# Altium footprint library QUTMS_IsolatedPowerSupply.PcbLib: 1 footprints
Each footprint in its own frame and in the unit in brackets; x right, y up, seen from the top. Pads: shape width x height; smd on the part's side, far side on the other; paste and mask are expansions set on the pad; w line width, h text height; cw(c..) or ccw(c..) is an arc to the next point about the centre after c.
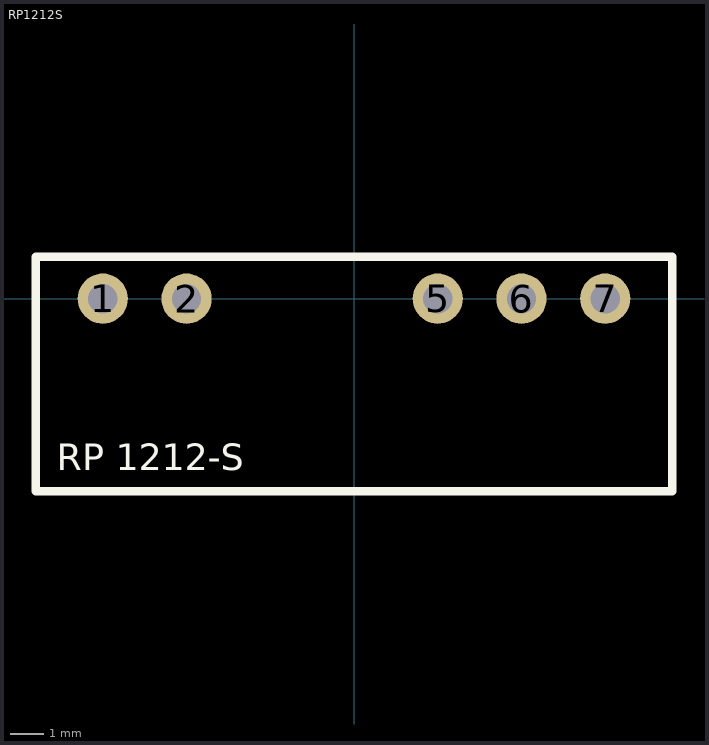
[diagram p0: the footprint, top view; thin cyan lines are the x and y axes]

## RP1212S [mil]
pads (5):
  round 60 hole 35: 1(-300,0) 2(-200,0) 5(100,0) 6(200,0) 7(300,0)
Top Overlay:
  lines w10: -380,-230 -380,50 380,50 380,-230 -380,-230
  text "RP 1212-S" at -355,-205 h32
3D body: height 400, standoff 0, extent -380,-230 380,50